# Altium footprint library PcbLib1.PcbLib: 1 footprints
Each footprint in its own frame and in the unit in brackets; x right, y up, seen from the top. Pads: shape width x height; smd on the part's side, far side on the other; paste and mask are expansions set on the pad; w line width, h text height; cw(c..) or ccw(c..) is an arc to the next point about the centre after c.
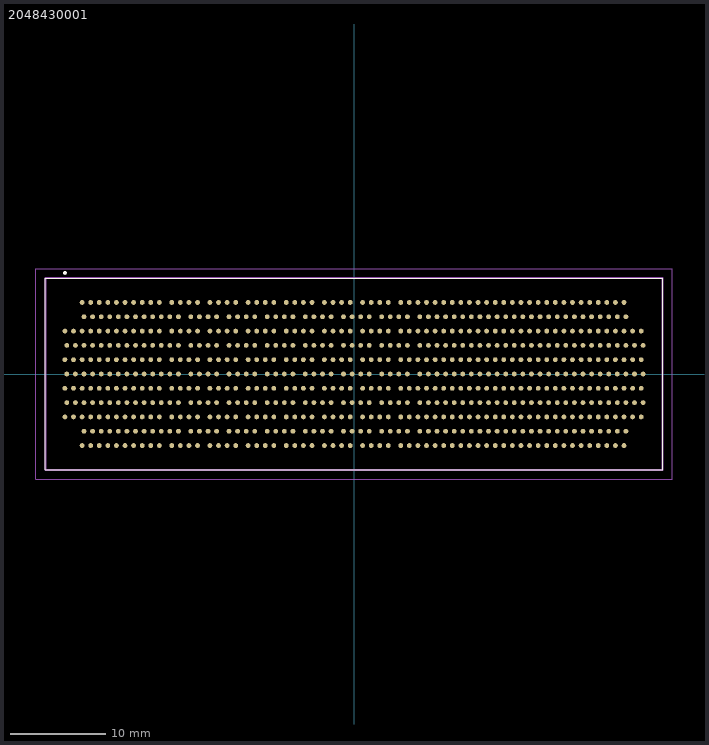
[diagram p0: the footprint, top view; thin cyan lines are the x and y axes]

## 2048430001 [mm]
pads (699):
  round 0.5 smd: A3(-28.5,7.5) A4(-27.6,7.5) A5(-26.7,7.5) A6(-25.8,7.5) A7(-24.9,7.5) A8(-24,7.5) A9(-23.1,7.5) A10(-22.2,7.5) A11(-21.3,7.5) A12(-20.4,7.5) A13(-19.1,7.5) A14(-18.2,7.5) A15(-17.3,7.5) A16(-16.4,7.5) A17(-15.1,7.5) A18(-14.2,7.5) A19(-13.3,7.5) A20(-12.4,7.5) A21(-11.1,7.5) A22(-10.2,7.5) A23(-9.3,7.5) A24(-8.4,7.5) A25(-7.1,7.5) A26(-6.2,7.5) A27(-5.3,7.5) A28(-4.4,7.5) A29(-3.1,7.5) A30(-2.2,7.5) A31(-1.3,7.5) A32(-0.4,7.5) A33(0.9,7.5) A34(1.8,7.5) A35(2.7,7.5) A36(3.6,7.5) A37(4.9,7.5) A38(5.8,7.5) A39(6.7,7.5) A40(7.6,7.5) A41(8.5,7.5) A42(9.4,7.5) A43(10.3,7.5) A44(11.2,7.5) A45(12.1,7.5) A46(13,7.5) A47(13.9,7.5) A48(14.8,7.5) A49(15.7,7.5) A50(16.6,7.5) A51(17.5,7.5) A52(18.4,7.5) A53(19.3,7.5) A54(20.2,7.5) A55(21.1,7.5) A56(22,7.5) A57(22.9,7.5) A58(23.8,7.5) A59(24.7,7.5) A60(25.6,7.5) A61(26.5,7.5) A62(27.4,7.5) A63(28.3,7.5) B3(-28.3,6) B4(-27.4,6) B5(-26.5,6) B6(-25.6,6) B7(-24.7,6) B8(-23.8,6) B9(-22.9,6) B10(-22,6) B11(-21.1,6) B12(-20.2,6) B13(-19.3,6) B14(-18.4,6) B15(-17.1,6) B16(-16.2,6) B17(-15.3,6) B18(-14.4,6) B19(-13.1,6) B20(-12.2,6) B21(-11.3,6) B22(-10.4,6) B23(-9.1,6) B24(-8.2,6) B25(-7.3,6) B26(-6.4,6) B27(-5.1,6) B28(-4.2,6) B29(-3.3,6) B30(-2.4,6) B31(-1.1,6) B32(-0.2,6) B33(0.7,6) B34(1.6,6) B35(2.9,6) B36(3.8,6) B37(4.7,6) B38(5.6,6) B39(6.9,6) B40(7.8,6) B41(8.7,6) B42(9.6,6) B43(10.5,6) B44(11.4,6) B45(12.3,6) B46(13.2,6) B47(14.1,6) B48(15,6) B49(15.9,6) B50(16.8,6) B51(17.7,6) B52(18.6,6) B53(19.5,6) B54(20.4,6) B55(21.3,6) B56(22.2,6) B57(23.1,6) B58(24,6) B59(24.9,6) B60(25.8,6) B61(26.7,6) B62(27.6,6) B63(28.5,6) C1(-30.3,4.5) C2(-29.4,4.5) C3(-28.5,4.5) C4(-27.6,4.5) C5(-26.7,4.5) C6(-25.8,4.5) C7(-24.9,4.5) C8(-24,4.5) C9(-23.1,4.5) C10(-22.2,4.5) C11(-21.3,4.5) C12(-20.4,4.5) C13(-19.1,4.5) C14(-18.2,4.5) C15(-17.3,4.5) C16(-16.4,4.5) C17(-15.1,4.5) C18(-14.2,4.5) C19(-13.3,4.5) C20(-12.4,4.5) C21(-11.1,4.5) C22(-10.2,4.5) C23(-9.3,4.5) C24(-8.4,4.5) C25(-7.1,4.5) C26(-6.2,4.5) C27(-5.3,4.5) C28(-4.4,4.5) C29(-3.1,4.5) C30(-2.2,4.5) C31(-1.3,4.5) C32(-0.4,4.5) C33(0.9,4.5) C34(1.8,4.5) C35(2.7,4.5) C36(3.6,4.5) C37(4.9,4.5) C38(5.8,4.5) C39(6.7,4.5) C40(7.6,4.5) C41(8.5,4.5) C42(9.4,4.5) C43(10.3,4.5) C44(11.2,4.5) C45(12.1,4.5) C46(13,4.5) C47(13.9,4.5) C48(14.8,4.5) C49(15.7,4.5) C50(16.6,4.5) C51(17.5,4.5) C52(18.4,4.5) C53(19.3,4.5) C54(20.2,4.5) C55(21.1,4.5) C56(22,4.5) C57(22.9,4.5) C58(23.8,4.5) C59(24.7,4.5) C60(25.6,4.5) C61(26.5,4.5) C62(27.4,4.5) C63(28.3,4.5) C64(29.2,4.5) C65(30.1,4.5) D1(-30.1,3) D2(-29.2,3) D3(-28.3,3) D4(-27.4,3) D5(-26.5,3) D6(-25.6,3) D7(-24.7,3) D8(-23.8,3) D9(-22.9,3) D10(-22,3) D11(-21.1,3) D12(-20.2,3) D13(-19.3,3) D14(-18.4,3) D15(-17.1,3) D16(-16.2,3) D17(-15.3,3) D18(-14.4,3) D19(-13.1,3) D20(-12.2,3) D21(-11.3,3) D22(-10.4,3) D23(-9.1,3) D24(-8.2,3) D25(-7.3,3) D26(-6.4,3) D27(-5.1,3) D28(-4.2,3) D29(-3.3,3) D30(-2.4,3) D31(-1.1,3) D32(-0.2,3) D33(0.7,3) D34(1.6,3) D35(2.9,3) D36(3.8,3) D37(4.7,3) D38(5.6,3) D39(6.9,3) D40(7.8,3) D41(8.7,3) D42(9.6,3) D43(10.5,3) D44(11.4,3) D45(12.3,3) D46(13.2,3) D47(14.1,3) D48(15,3) D49(15.9,3) D50(16.8,3) D51(17.7,3) D52(18.6,3) D53(19.5,3) D54(20.4,3) D55(21.3,3) D56(22.2,3) D57(23.1,3) D58(24,3) D59(24.9,3) D60(25.8,3) D61(26.7,3) D62(27.6,3) D63(28.5,3) D64(29.4,3) D65(30.3,3) E1(-30.3,1.5) E2(-29.4,1.5) E3(-28.5,1.5) E4(-27.6,1.5) E5(-26.7,1.5) E6(-25.8,1.5) E7(-24.9,1.5) E8(-24,1.5) E9(-23.1,1.5) E10(-22.2,1.5) E11(-21.3,1.5) E12(-20.4,1.5) E13(-19.1,1.5) E14(-18.2,1.5) E15(-17.3,1.5) E16(-16.4,1.5) E17(-15.1,1.5) E18(-14.2,1.5) E19(-13.3,1.5) E20(-12.4,1.5) E21(-11.1,1.5) E22(-10.2,1.5) E23(-9.3,1.5) E24(-8.4,1.5) E25(-7.1,1.5) E26(-6.2,1.5) E27(-5.3,1.5) E28(-4.4,1.5) E29(-3.1,1.5) E30(-2.2,1.5) E31(-1.3,1.5) E32(-0.4,1.5) E33(0.9,1.5) E34(1.8,1.5) E35(2.7,1.5) E36(3.6,1.5) E37(4.9,1.5) E38(5.8,1.5) E39(6.7,1.5) E40(7.6,1.5) E41(8.5,1.5) E42(9.4,1.5) E43(10.3,1.5) E44(11.2,1.5) E45(12.1,1.5) E46(13,1.5) E47(13.9,1.5) E48(14.8,1.5) E49(15.7,1.5) E50(16.6,1.5) E51(17.5,1.5) E52(18.4,1.5) E53(19.3,1.5) E54(20.2,1.5) E55(21.1,1.5) E56(22,1.5) E57(22.9,1.5) E58(23.8,1.5) E59(24.7,1.5) E60(25.6,1.5) E61(26.5,1.5) E62(27.4,1.5) E63(28.3,1.5) E64(29.2,1.5) E65(30.1,1.5) F1(-30.1,0) F2(-29.2,0) F3(-28.3,0) F4(-27.4,0) F5(-26.5,0) F6(-25.6,0) F7(-24.7,0) F8(-23.8,0) F9(-22.9,0) F10(-22,0) F11(-21.1,0) F12(-20.2,0) F13(-19.3,0) F14(-18.4,0) F15(-17.1,0) F16(-16.2,0) F17(-15.3,0) F18(-14.4,0) F19(-13.1,0) F20(-12.2,0) F21(-11.3,0) F22(-10.4,0) F23(-9.1,0) F24(-8.2,0) F25(-7.3,0) F26(-6.4,0) F27(-5.1,0) F28(-4.2,0) F29(-3.3,0) F30(-2.4,0) F31(-1.1,0) F32(-0.2,0) F33(0.7,0) F34(1.6,0) F35(2.9,0) F36(3.8,0) F37(4.7,0) F38(5.6,0) F39(6.9,0) F40(7.8,0) F41(8.7,0) F42(9.6,0) F43(10.5,0) F44(11.4,0) F45(12.3,0) F46(13.2,0) F47(14.1,0) F48(15,0) F49(15.9,0) F50(16.8,0) F51(17.7,0) F52(18.6,0) F53(19.5,0) F54(20.4,0) F55(21.3,0) F56(22.2,0) F57(23.1,0) F58(24,0) F59(24.9,0) F60(25.8,0) F61(26.7,0) F62(27.6,0) F63(28.5,0) F64(29.4,0) F65(30.3,0) G1(-30.3,-1.5) G2(-29.4,-1.5) G3(-28.5,-1.5) G4(-27.6,-1.5) G5(-26.7,-1.5) G6(-25.8,-1.5) G7(-24.9,-1.5) G8(-24,-1.5) G9(-23.1,-1.5) G10(-22.2,-1.5) G11(-21.3,-1.5) G12(-20.4,-1.5) G13(-19.1,-1.5) G14(-18.2,-1.5) G15(-17.3,-1.5) G16(-16.4,-1.5) G17(-15.1,-1.5) G18(-14.2,-1.5) G19(-13.3,-1.5) G20(-12.4,-1.5) G21(-11.1,-1.5) G22(-10.2,-1.5) G23(-9.3,-1.5) G24(-8.4,-1.5) G25(-7.1,-1.5) G26(-6.2,-1.5) G27(-5.3,-1.5) G28(-4.4,-1.5) G29(-3.1,-1.5) G30(-2.2,-1.5) G31(-1.3,-1.5) G32(-0.4,-1.5) G33(0.9,-1.5) G34(1.8,-1.5) G35(2.7,-1.5) G36(3.6,-1.5) G37(4.9,-1.5) G38(5.8,-1.5) G39(6.7,-1.5) G40(7.6,-1.5) G41(8.5,-1.5) G42(9.4,-1.5) G43(10.3,-1.5) G44(11.2,-1.5) G45(12.1,-1.5) G46(13,-1.5) G47(13.9,-1.5) G48(14.8,-1.5) G49(15.7,-1.5) G50(16.6,-1.5) G51(17.5,-1.5) G52(18.4,-1.5) G53(19.3,-1.5) G54(20.2,-1.5) G55(21.1,-1.5) G56(22,-1.5) G57(22.9,-1.5) G58(23.8,-1.5) G59(24.7,-1.5) G60(25.6,-1.5) G61(26.5,-1.5) G62(27.4,-1.5) G63(28.3,-1.5) G64(29.2,-1.5) G65(30.1,-1.5) H1(-30.1,-3) H2(-29.2,-3) H3(-28.3,-3) H4(-27.4,-3) H5(-26.5,-3) H6(-25.6,-3) H7(-24.7,-3) H8(-23.8,-3) H9(-22.9,-3) H10(-22,-3) H11(-21.1,-3) H12(-20.2,-3) H13(-19.3,-3) H14(-18.4,-3) H15(-17.1,-3) H16(-16.2,-3) H17(-15.3,-3) H18(-14.4,-3) H19(-13.1,-3) H20(-12.2,-3) H21(-11.3,-3) H22(-10.4,-3) H23(-9.1,-3) H24(-8.2,-3) H25(-7.3,-3) H26(-6.4,-3) H27(-5.1,-3) H28(-4.2,-3) H29(-3.3,-3) H30(-2.4,-3) H31(-1.1,-3) H32(-0.2,-3) H33(0.7,-3) H34(1.6,-3) H35(2.9,-3) H36(3.8,-3) H37(4.7,-3) H38(5.6,-3) H39(6.9,-3) H40(7.8,-3) H41(8.7,-3) H42(9.6,-3) H43(10.5,-3) H44(11.4,-3) H45(12.3,-3) H46(13.2,-3) H47(14.1,-3) H48(15,-3) H49(15.9,-3) H50(16.8,-3) H51(17.7,-3) H52(18.6,-3) H53(19.5,-3) H54(20.4,-3) H55(21.3,-3) H56(22.2,-3) H57(23.1,-3) H58(24,-3) H59(24.9,-3) H60(25.8,-3) H61(26.7,-3) H62(27.6,-3) H63(28.5,-3) H64(29.4,-3) H65(30.3,-3) J1(-30.3,-4.5) J2(-29.4,-4.5) J3(-28.5,-4.5) J4(-27.6,-4.5) J5(-26.7,-4.5) J6(-25.8,-4.5) J7(-24.9,-4.5) J8(-24,-4.5) J9(-23.1,-4.5) J10(-22.2,-4.5) J11(-21.3,-4.5) J12(-20.4,-4.5) J13(-19.1,-4.5) J14(-18.2,-4.5) J15(-17.3,-4.5) J16(-16.4,-4.5) J17(-15.1,-4.5) J18(-14.2,-4.5) J19(-13.3,-4.5) J20(-12.4,-4.5) J21(-11.1,-4.5) J22(-10.2,-4.5) J23(-9.3,-4.5) J24(-8.4,-4.5) J25(-7.1,-4.5) J26(-6.2,-4.5) J27(-5.3,-4.5) J28(-4.4,-4.5) J29(-3.1,-4.5) J30(-2.2,-4.5) J31(-1.3,-4.5) J32(-0.4,-4.5) J33(0.9,-4.5) J34(1.8,-4.5) J35(2.7,-4.5) J36(3.6,-4.5) J37(4.9,-4.5) J38(5.8,-4.5) J39(6.7,-4.5) J40(7.6,-4.5) J41(8.5,-4.5) J42(9.4,-4.5) J43(10.3,-4.5) J44(11.2,-4.5) J45(12.1,-4.5) J46(13,-4.5) J47(13.9,-4.5) J48(14.8,-4.5) J49(15.7,-4.5) J50(16.6,-4.5) J51(17.5,-4.5) J52(18.4,-4.5) J53(19.3,-4.5) J54(20.2,-4.5) J55(21.1,-4.5) J56(22,-4.5) J57(22.9,-4.5) J58(23.8,-4.5) J59(24.7,-4.5) J60(25.6,-4.5) J61(26.5,-4.5) J62(27.4,-4.5) J63(28.3,-4.5) J64(29.2,-4.5) J65(30.1,-4.5) K3(-28.3,-6) K4(-27.4,-6) K5(-26.5,-6) K6(-25.6,-6) K7(-24.7,-6) K8(-23.8,-6) K9(-22.9,-6) K10(-22,-6) K11(-21.1,-6) K12(-20.2,-6) K13(-19.3,-6) K14(-18.4,-6) K15(-17.1,-6) K16(-16.2,-6) K17(-15.3,-6) K18(-14.4,-6) K19(-13.1,-6) K20(-12.2,-6) K21(-11.3,-6) K22(-10.4,-6) K23(-9.1,-6) K24(-8.2,-6) K25(-7.3,-6) K26(-6.4,-6) K27(-5.1,-6) K28(-4.2,-6) K29(-3.3,-6) K30(-2.4,-6) K31(-1.1,-6) K32(-0.2,-6) K33(0.7,-6) K34(1.6,-6) K35(2.9,-6) K36(3.8,-6) K37(4.7,-6) K38(5.6,-6) K39(6.9,-6) K40(7.8,-6) K41(8.7,-6) K42(9.6,-6) K43(10.5,-6) K44(11.4,-6) K45(12.3,-6) K46(13.2,-6) K47(14.1,-6) K48(15,-6) K49(15.9,-6) K50(16.8,-6) K51(17.7,-6) K52(18.6,-6) K53(19.5,-6) K54(20.4,-6) K55(21.3,-6) K56(22.2,-6) K57(23.1,-6) K58(24,-6) K59(24.9,-6) K60(25.8,-6) K61(26.7,-6) K62(27.6,-6) K63(28.5,-6) L3(-28.5,-7.5) L4(-27.6,-7.5) L5(-26.7,-7.5) L6(-25.8,-7.5) L7(-24.9,-7.5) L8(-24,-7.5) L9(-23.1,-7.5) L10(-22.2,-7.5) L11(-21.3,-7.5) L12(-20.4,-7.5) L13(-19.1,-7.5) L14(-18.2,-7.5) L15(-17.3,-7.5) L16(-16.4,-7.5) L17(-15.1,-7.5) L18(-14.2,-7.5) L19(-13.3,-7.5) L20(-12.4,-7.5) L21(-11.1,-7.5) L22(-10.2,-7.5) L23(-9.3,-7.5) L24(-8.4,-7.5) L25(-7.1,-7.5) L26(-6.2,-7.5) L27(-5.3,-7.5) L28(-4.4,-7.5) L29(-3.1,-7.5) L30(-2.2,-7.5) L31(-1.3,-7.5) L32(-0.4,-7.5) L33(0.9,-7.5) L34(1.8,-7.5) L35(2.7,-7.5) L36(3.6,-7.5) L37(4.9,-7.5) L38(5.8,-7.5) L39(6.7,-7.5) L40(7.6,-7.5) L41(8.5,-7.5) L42(9.4,-7.5) L43(10.3,-7.5) L44(11.2,-7.5) L45(12.1,-7.5) L46(13,-7.5) L47(13.9,-7.5) L48(14.8,-7.5) L49(15.7,-7.5) L50(16.6,-7.5) L51(17.5,-7.5) L52(18.4,-7.5) L53(19.3,-7.5) L54(20.2,-7.5) L55(21.1,-7.5) L56(22,-7.5) L57(22.9,-7.5) L58(23.8,-7.5) L59(24.7,-7.5) L60(25.6,-7.5) L61(26.5,-7.5) L62(27.4,-7.5) L63(28.3,-7.5)
Top Overlay:
  lines w0.1: -32.35,-10.05 32.35,-10.05 32.35,10.05 -32.35,10.05 -32.35,-10.05
  lines w0.2: -30.4,10.6 ccw(c-30.3,10.6) -30.2,10.6 ccw(c-30.3,10.6) -30.4,10.6
Mechanical 13:
  lines w0.2: -32.35,-10.05 32.35,-10.05 32.35,10.05 -32.35,10.05 -32.35,-10.05
Mechanical 15:
  lines w0.1: -33.35,-11.05 33.35,-11.05 33.35,11.05 -33.35,11.05 -33.35,-11.05
3D body "204843-0001.stp": height 4.91, standoff 0, extent -32.354,-10.817 32.346,10.283